# Altium footprint library 62300421021.PcbLib: 1 footprints
Each footprint in its own frame and in the unit in brackets; x right, y up, seen from the top. Pads: shape width x height; smd on the part's side, far side on the other; paste and mask are expansions set on the pad; w line width, h text height; cw(c..) or ccw(c..) is an arc to the next point about the centre after c.
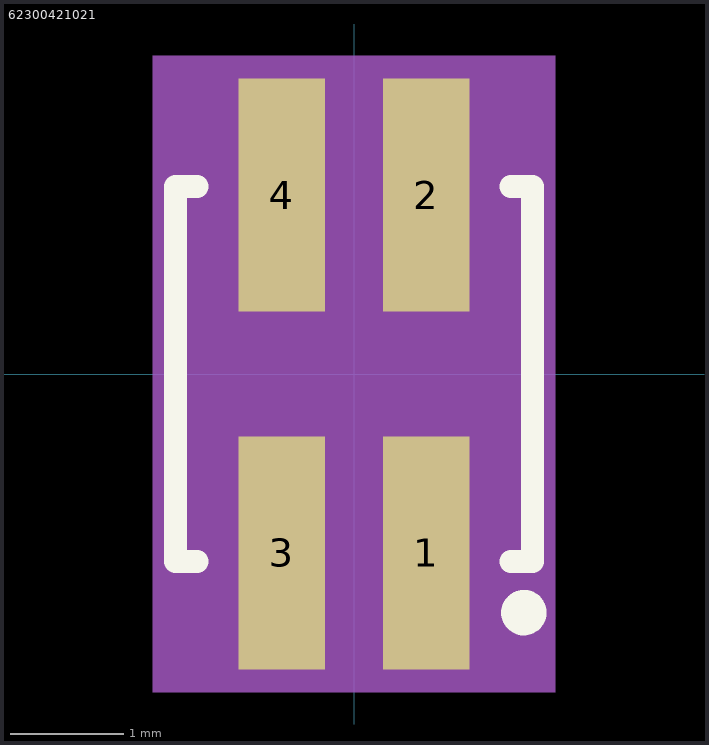
[diagram p0: the footprint, top view; thin cyan lines are the x and y axes]

## 62300421021 [mm]
pads (4):
  rect 0.76x2.05 smd paste+0 mask+0.102: 1(0.635,-1.575) 2(0.635,1.575) 3(-0.635,-1.575) 4(-0.635,1.575)
Top Overlay:
  circle w0.2: c1.495,-2.1 r0.1
  lines w0.2: -1.38,-1.65 -1.57,-1.65 -1.57,1.65 -1.38,1.65 ; 1.38,-1.65 1.57,-1.65 1.57,1.65 1.38,1.65
Assembly Top:
  lines w0.1: -1.47,-1.55 -1.47,1.55 1.47,1.55 1.47,-1.55 -1.47,-1.55
Courtyard Top:
  region: 1.77,-2.8 -1.77,-2.8 -1.77,2.8 1.77,2.8
3D body "62300421021.stp": height 2.15, standoff -2.45, extent -1.489,-2.334 1.451,2.26